# Altium footprint library PcbLib1.PcbLib: 68 footprints (part 2 of 5)
Each footprint in its own frame and in the unit in brackets; x right, y up, seen from the top. Pads: shape width x height; smd on the part's side, far side on the other; paste and mask are expansions set on the pad; w line width, h text height; cw(c..) or ccw(c..) is an arc to the next point about the centre after c.
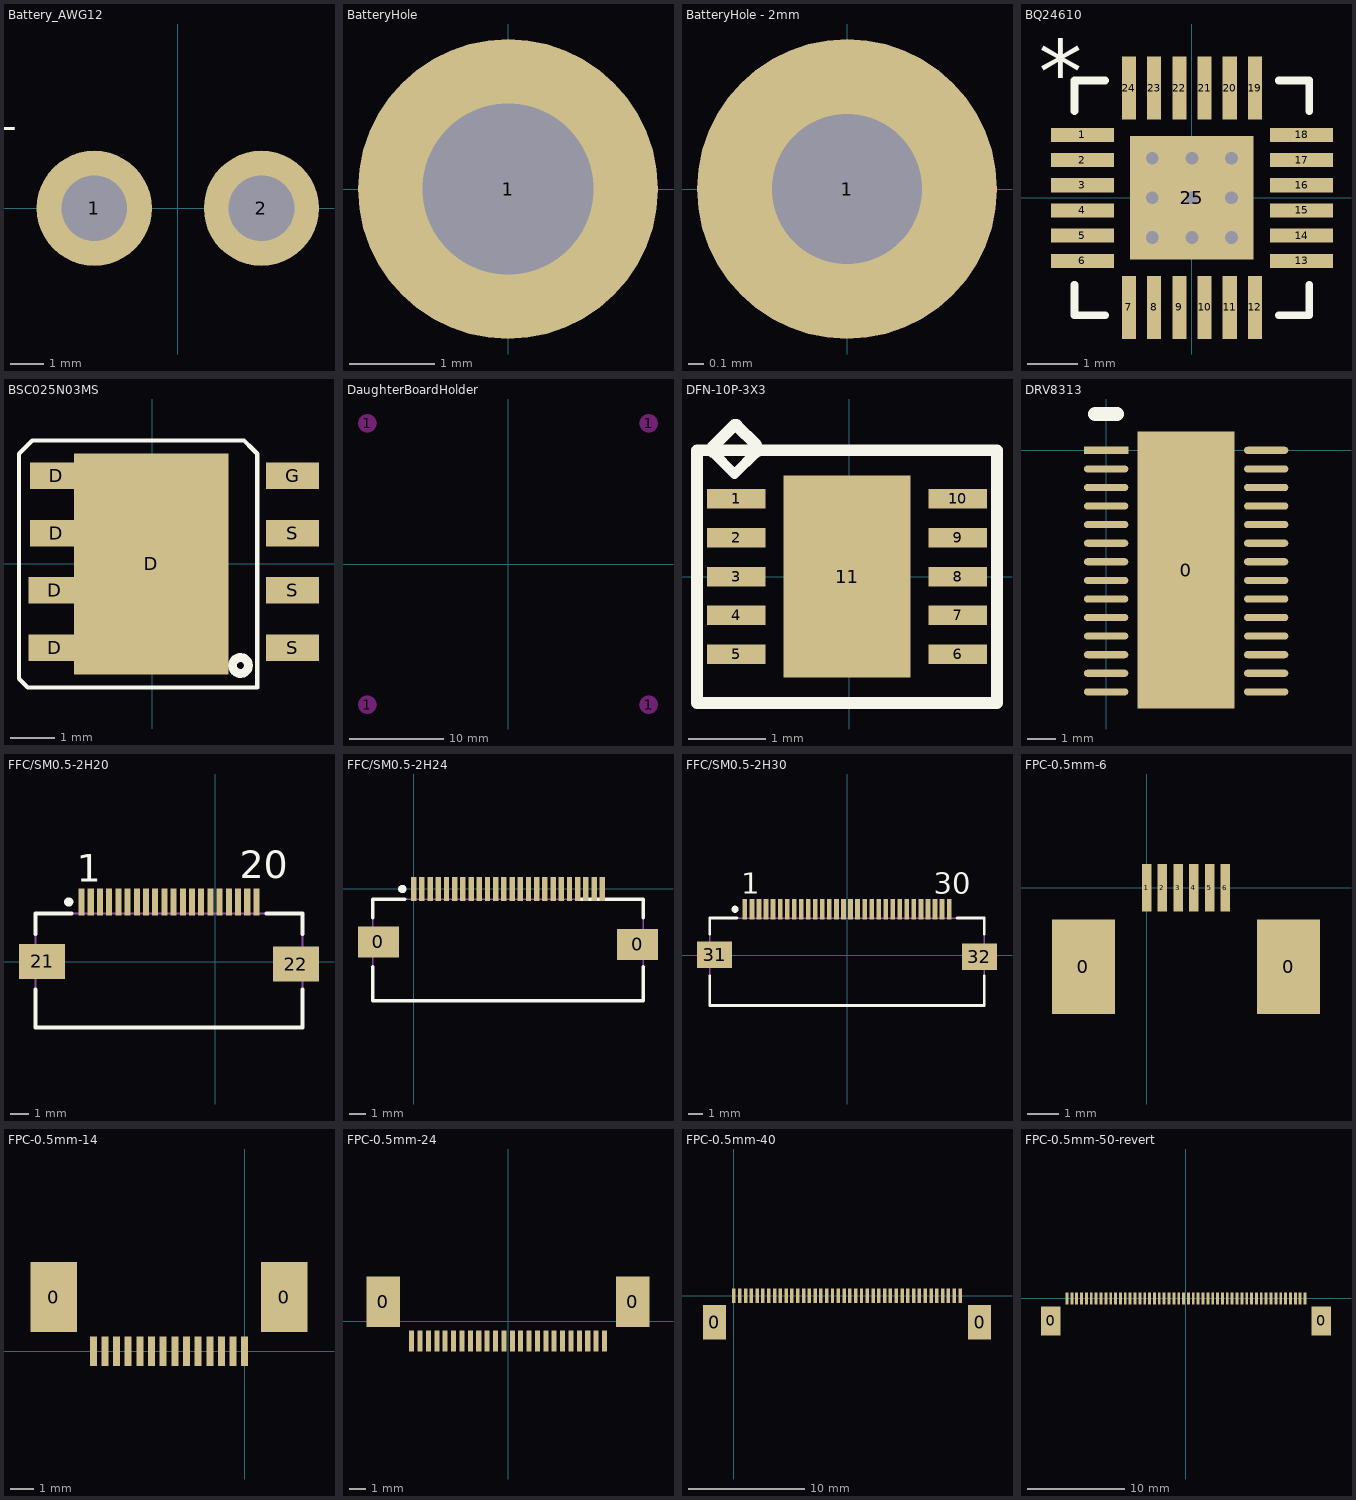
[diagram p1: the footprints below, top view; thin cyan lines are the x and y axes]

## Battery_AWG12 [mm]
pads (2):
  round 3.5 hole 2: 1(-2.54,0) 2(2.54,0)
Top Overlay:
  text "+" at -4.826,2.032 h0.89

## BatteryHole [mm]
pads (1):
  round 3.5 hole 2: 1(0,0)

## BatteryHole - 2mm [mm]
pads (1):
  round 2 hole 1: 1(0,0)

## BQ24610 [mm]
pads (25):
  rect 1.25x0.28 smd paste-0.14: 1(-2.175,1.25) 2(-2.175,0.75) 3(-2.175,0.25) 4(-2.175,-0.25) 5(-2.175,-0.75) 6(-2.175,-1.25) 13(2.175,-1.25) 14(2.175,-0.75) 15(2.175,-0.25) 16(2.175,0.25) 17(2.175,0.75) 18(2.175,1.25)
  rect 0.28x1.25 smd paste-0.14: 7(-1.25,-2.175) 8(-0.75,-2.175) 9(-0.25,-2.175) 10(0.25,-2.175) 11(0.75,-2.175) 12(1.25,-2.175) 19(1.25,2.175) 20(0.75,2.175) 21(0.25,2.175) 22(-0.25,2.175) 23(-0.75,2.175) 24(-1.25,2.175)
  rect 2.45x2.45 smd: 25(0,0)
via -0.787,0.787 diameter 0.508 hole 0.254
via 0,0.787 diameter 0.508 hole 0.254
via 0.787,0.787 diameter 0.508 hole 0.254
via 0.787,0 diameter 0.508 hole 0.254
via 0,0 diameter 0.508 hole 0.254
via -0.787,0 diameter 0.508 hole 0.254
via -0.787,-0.787 diameter 0.508 hole 0.254
via 0,-0.787 diameter 0.508 hole 0.254
via 0.787,-0.787 diameter 0.508 hole 0.254
Top Overlay:
  lines w0.152: -2.329,-1.723 -2.329,-2.329 -1.723,-2.329 ; -2.329,1.723 -2.329,2.329 -1.723,2.329 ; 1.723,-2.329 2.329,-2.329 2.329,-1.723 ; 1.723,2.329 2.329,2.329 2.329,1.723
  text "*" at -3.035,1.881 h1.27
Mechanical 13:
  text "*" at -3.035,1.881 h1.27

## BSC025N03MS [mm]
pads (9):
  rect 1.2x0.6 smd: D(-2.215,-1.905) D(-2.215,-0.605) D(-2.175,0.695) D(-2.175,1.995) G(3.175,1.995) S(3.175,-1.905) S(3.175,-0.605) S(3.175,0.695)
  rect 3.5x5 smd: D(-0.025,-0.005)
Top Overlay:
  circle w0.2: c1.995,-2.305 r0.18
  lines w0.1: -3.025,-2.605 -3.025,2.495 -2.725,2.795 2.075,2.795 2.275,2.595 2.375,2.495 2.375,-2.805 -2.825,-2.805 -3.025,-2.605

## DaughterBoardHolder [mm]
pads (4):
  round 2 on Keep-Out: 1(-15,-15) 1(-15,15) 1(15,-15) 1(15,15)

## DFN-10P-3X3 [mm]
height 2
pads (11):
  rect 0.75x0.25 smd mask+0.064: 1(-1.451,0.999) 2(-1.451,0.499) 3(-1.451,-0.001) 4(-1.451,-0.501) 5(-1.451,-1.001) 6(1.4,-1.001) 7(1.4,-0.501) 8(1.4,-0.001) 9(1.4,0.499) 10(1.4,0.999)
  rect 1.64x2.6 smd: 11(-0.025,-0.001)
Top Overlay:
  lines w0.127: -1.752,1.6 -1.473,1.321 -1.194,1.6
  lines w0.152: -1.752,1.6 -1.752,1.673 -1.475,1.95 -1.45,1.95 -1.194,1.694 -1.194,1.6 ; -1.957,-1.627 1.905,-1.627 1.905,1.625 -1.957,1.625 -1.957,-1.627

## DRV8313 [mm]
pads (29):
  rect 3.4x9.7 smd: 0(2.794,-4.191)
  rect 1.55x0.25 smd: 1(0,0)
  oval 1.55x0.25 smd: 2(0,-0.65) 3(0,-1.3) 4(0,-1.95) 5(0,-2.6) 6(0,-3.25) 7(0,-3.9) 8(0,-4.55) 9(0,-5.2) 10(0,-5.85) 11(0,-6.5) 12(0,-7.15) 13(0,-7.8) 14(0,-8.45) 15(5.6,-8.45) 16(5.6,-7.8) 17(5.6,-7.15) 18(5.6,-6.5) 19(5.6,-5.85) 20(5.6,-5.2) 21(5.6,-4.55) 22(5.6,-3.9) 23(5.6,-3.25) 24(5.6,-2.6) 25(5.6,-1.95) 26(5.6,-1.3) 27(5.6,-0.65) 28(5.6,0)
Top Overlay:
  lines w0.5: -0.381,1.27 0.381,1.27

## FFC/SM0.5-2H20 [mm]
height 2
pads (22):
  rect 0.33x1.45 smd: 1(-7.268,3.252) 2(-6.768,3.252) 3(-6.268,3.252) 4(-5.768,3.252) 5(-5.268,3.252) 6(-4.768,3.252) 7(-4.268,3.252) 8(-3.768,3.252) 9(-3.268,3.252) 10(-2.768,3.252) 11(-2.268,3.252) 12(-1.768,3.252) 13(-1.268,3.252) 14(-0.768,3.252) 15(-0.268,3.252) 16(0.232,3.252) 17(0.732,3.252) 18(1.232,3.252) 19(1.732,3.252) 20(2.232,3.252)
  rect 2.5x1.9 smd: 21(-9.418,0.027) 22(4.382,-0.123)
Top Overlay:
  circle w0.25: c-7.968,3.252 r0.125
  lines w0.2: -9.768,-1.498 -9.768,-3.573 4.732,-3.573 4.732,-1.498 ; -9.768,1.502 -9.768,2.627 -7.818,2.627 ; 2.782,2.627 4.732,2.627 4.732,1.502
  text "1" at -7.518,4.352 h1.5
  text "20" at 1.321,4.547 h1.5
Mechanical 13:
  lines w0.1: -9.768,-3.573 -9.768,2.627 4.732,2.627 4.732,-3.573 -9.768,-3.573
3D body: height 2, standoff 0, extent -9.728,-3.581 4.699,2.591

## FFC/SM0.5-2H24 [mm]
height 2
pads (26):
  rect 2.5x1.9 smd: 0(-2.15,-3.225) 0(13.65,-3.375)
  rect 0.33x1.45 smd: 1(0,0) 2(0.5,0) 3(1,0) 4(1.5,0) 5(2,0) 6(2.5,0) 7(3,0) 8(3.5,0) 9(4,0) 10(4.5,0) 11(5,0) 12(5.5,0) 13(6,0) 14(6.5,0) 15(7,0) 16(7.5,0) 17(8,0) 18(8.5,0) 19(9,0) 20(9.5,0) 21(10,0) 22(10.5,0) 23(11,0) 24(11.5,0)
Top Overlay:
  circle w0.25: c-0.7,0 r0.125
  lines w0.2: -2.5,-4.75 -2.5,-6.825 14,-6.825 14,-4.75 ; -2.5,-1.75 -2.5,-0.625 -0.55,-0.625 ; 10.05,-0.625 14,-0.625 14,-1.75
Mechanical 13:
  lines w0.1: -2.5,-6.825 14,-6.825 14,-0.625 -2.5,-0.625 -2.5,-6.825
3D body: height 2, standoff 0, extent -2.461,-6.834 14,-0.661

## FFC/SM0.5-2H30 [mm]
height 2
pads (32):
  rect 0.33x1.45 smd: 1(-7.268,3.252) 2(-6.768,3.252) 3(-6.268,3.252) 4(-5.768,3.252) 5(-5.268,3.252) 6(-4.768,3.252) 7(-4.268,3.252) 8(-3.768,3.252) 9(-3.268,3.252) 10(-2.768,3.252) 11(-2.268,3.252) 12(-1.768,3.252) 13(-1.268,3.252) 14(-0.768,3.252) 15(-0.268,3.252) 16(0.232,3.252) 17(0.732,3.252) 18(1.232,3.252) 19(1.732,3.252) 20(2.232,3.252) 21(2.732,3.252) 22(3.232,3.252) 23(3.732,3.252) 24(4.232,3.252) 25(4.732,3.252) 26(5.232,3.252) 27(5.732,3.252) 28(6.232,3.252) 29(6.732,3.252) 30(7.232,3.252)
  rect 2.5x1.9 smd: 31(-9.418,0.027) 32(9.382,-0.123)
Top Overlay:
  circle w0.25: c-7.968,3.252 r0.125
  lines w0.2: -9.768,-1.498 -9.768,-3.573 9.732,-3.573 9.732,-1.498 ; -9.768,1.502 -9.768,2.627 -7.818,2.627 ; 7.782,2.627 9.732,2.627 9.732,1.502
  text "1" at -7.518,4.352 h1.5
  text "30" at 6.132,4.352 h1.5
Mechanical 13:
  lines w0.1: -9.768,-3.573 -9.768,2.627 9.732,2.627 9.732,-3.573 -9.768,-3.573
3D body: height 2, standoff 0, extent -9.768,-3.573 9.732,2.627

## FPC-0.5mm-6 [mm]
pads (8):
  rect 2x3 smd: 0(-2,-2.5) 0(4.5,-2.5)
  rect 0.3x1.5 smd: 1(0,0) 2(0.5,0) 3(1,0) 4(1.5,0) 5(2,0) 6(2.5,0)

## FPC-0.5mm-14 [mm]
pads (16):
  rect 2x3 smd: 0(-8.19,2.325) 0(1.69,2.325)
  rect 0.3x1.25 smd: 1(0,0) 2(-0.5,0) 3(-1,0) 4(-1.5,0) 5(-2,0) 6(-2.5,0) 7(-3,0) 8(-3.5,0) 9(-4,0) 10(-4.5,0) 11(-5,0) 12(-5.5,0) 13(-6,0) 14(-6.5,0)

## FPC-0.5mm-24 [mm]
pads (26):
  rect 2x3 smd: 0(-7.445,1.163) 0(7.445,1.163)
  rect 0.3x1.25 smd: 1(5.755,-1.163) 2(5.255,-1.163) 3(4.755,-1.163) 4(4.255,-1.163) 5(3.755,-1.163) 6(3.255,-1.163) 7(2.755,-1.163) 8(2.255,-1.163) 9(1.755,-1.163) 10(1.255,-1.163) 11(0.755,-1.163) 12(0.255,-1.163) 13(-0.245,-1.163) 14(-0.745,-1.163) 15(-1.245,-1.163) 16(-1.745,-1.163) 17(-2.245,-1.163) 18(-2.745,-1.163) 19(-3.245,-1.163) 20(-3.745,-1.163) 21(-4.245,-1.163) 22(-4.745,-1.163) 23(-5.245,-1.163) 24(-5.745,-1.163)

## FPC-0.5mm-40 [mm]
pads (42):
  rect 2x3 smd: 0(-1.69,-2.285) 0(21.19,-2.285)
  rect 0.3x1.25 smd: 1(0,0) 2(0.5,0) 3(1,0) 4(1.5,0) 5(2,0) 6(2.5,0) 7(3,0) 8(3.5,0) 9(4,0) 10(4.5,0) 11(5,0) 12(5.5,0) 13(6,0) 14(6.5,0) 15(7,0) 16(7.5,0) 17(8,0) 18(8.5,0) 19(9,0) 20(9.5,0) 21(10,0) 22(10.5,0) 23(11,0) 24(11.5,0) 25(12,0) 26(12.5,0) 27(13,0) 28(13.5,0) 29(14,0) 30(14.5,0) 31(15,0) 32(15.5,0) 33(16,0) 34(16.5,0) 35(17,0) 36(17.5,0) 37(18,0) 38(18.5,0) 39(19,0) 40(19.5,0)

## FPC-0.5mm-50-revert [mm]
pads (52):
  rect 2x3 smd: 0(-13.94,-2.305) 0(13.94,-2.305)
  rect 0.3x1.25 smd: 1(12.25,-0.019) 2(11.75,-0.019) 3(11.25,-0.019) 4(10.75,-0.019) 5(10.25,-0.019) 6(9.75,-0.019) 7(9.25,-0.019) 8(8.75,-0.019) 9(8.25,-0.019) 10(7.75,-0.019) 11(7.25,-0.019) 12(6.75,-0.019) 13(6.25,-0.019) 14(5.75,-0.019) 15(5.25,-0.019) 16(4.75,-0.019) 17(4.25,-0.019) 18(3.75,-0.019) 19(3.25,-0.019) 20(2.75,-0.019) 21(2.25,-0.019) 22(1.75,-0.019) 23(1.25,-0.019) 24(0.75,-0.019) 25(0.25,-0.019) 26(-0.25,-0.019) 27(-0.75,-0.019) 28(-1.25,-0.019) 29(-1.75,-0.019) 30(-2.25,-0.019) 31(-2.75,-0.019) 32(-3.25,-0.019) 33(-3.75,-0.019) 34(-4.25,-0.019) 35(-4.75,-0.019) 36(-5.25,-0.019) 37(-5.75,-0.019) 38(-6.25,-0.019) 39(-6.75,-0.019) 40(-7.25,-0.019) 41(-7.75,-0.019) 42(-8.25,-0.019) 43(-8.75,-0.019) 44(-9.25,-0.019) 45(-9.75,-0.019) 46(-10.25,-0.019) 47(-10.75,-0.019) 48(-11.25,-0.019) 49(-11.75,-0.019) 50(-12.25,-0.019)